# Altium integrated library CC0402KRX7R7BB104.IntLib: 1 symbol
Pins are listed as number, name and electrical type; pins without a type are passive.

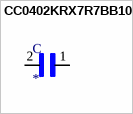
[diagram p0: symbol CC0402KRX7R7BB104]

## CC0402KRX7R7BB104
designator C
0.1ÂµF Â±10% 16V Ceramic Capacitor X7R 0402 _1005 Metric_; MF: Yageo; MP: CC0402KRX7R7BB104; SnapEDA_Link: https://www.snapeda.com/parts/CC0402KRX7R7BB104/Yageo/view-part/12303/?ref=snap; Price: None; Value: *; Availability: Unavailable; Package: 0402 Yageo
footprint CAPC1005X55N
pins: 1, 2